# Altium footprint library stc89c52.PcbLib: 1 footprints
Each footprint in its own frame and in the unit in brackets; x right, y up, seen from the top. Pads: shape width x height; smd on the part's side, far side on the other; paste and mask are expansions set on the pad; w line width, h text height; cw(c..) or ccw(c..) is an arc to the next point about the centre after c.
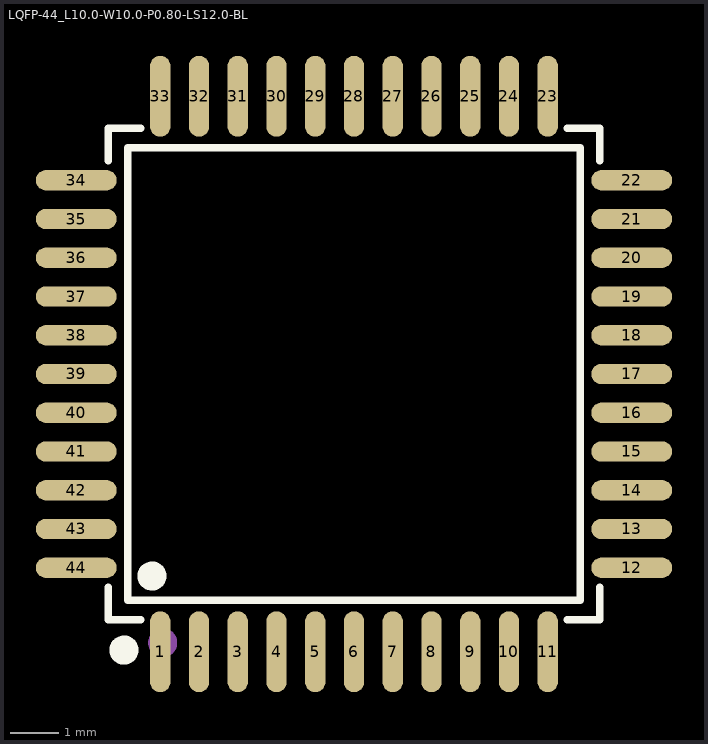
[diagram p0: the footprint, top view; thin cyan lines are the x and y axes]

## LQFP-44_L10.0-W10.0-P0.80-LS12.0-BL [mm]
pads (44):
  oval 0.42x1.67 smd: 1(452.915,-348.35) 2(453.715,-348.35) 3(454.515,-348.35) 4(455.315,-348.35) 5(456.115,-348.35) 6(456.915,-348.35) 7(457.715,-348.35) 8(458.515,-348.35) 9(459.315,-348.35) 10(460.115,-348.35) 11(460.915,-348.35) 23(460.915,-336.88) 24(460.115,-336.88) 25(459.315,-336.88) 26(458.515,-336.88) 27(457.715,-336.88) 28(456.915,-336.88) 29(456.115,-336.88) 30(455.315,-336.88) 31(454.515,-336.88) 32(453.715,-336.88) 33(452.915,-336.88)
  oval 1.67x0.42 smd: 12(462.65,-346.615) 13(462.65,-345.815) 14(462.65,-345.015) 15(462.65,-344.215) 16(462.65,-343.415) 17(462.65,-342.615) 18(462.65,-341.815) 19(462.65,-341.015) 20(462.65,-340.215) 21(462.65,-339.415) 22(462.65,-338.615) 34(451.18,-338.615) 35(451.18,-339.415) 36(451.18,-340.215) 37(451.18,-341.015) 38(451.18,-341.815) 39(451.18,-342.615) 40(451.18,-343.415) 41(451.18,-344.215) 42(451.18,-345.015) 43(451.18,-345.815) 44(451.18,-346.615)
Top Overlay:
  circle w0.3: c452.744,-346.786 r0.15
  circle w0.3: c452.165,-348.315 r0.15
  lines w0.152: 451.839,-347.016 451.839,-347.691 452.515,-347.691 ; 451.839,-338.215 451.839,-337.539 452.515,-337.539 ; 461.316,-347.691 461.991,-347.691 461.991,-347.016 ; 461.316,-337.539 461.991,-337.539 461.991,-338.215 ; 452.244,-347.286 461.586,-347.286 461.586,-337.944 452.244,-337.944 452.244,-347.286
Mechanical 15:
  circle w0.3: c452.965,-348.165 r0.15